# Altium schematic symbol library CCC.SchLib: 1 symbol
Pins are listed as number, name and electrical type; pins without a type are passive.

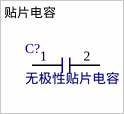
[diagram p0: symbol 贴片电容]

## 贴片电容
designator C?, comment 无极性贴片电容
footprint C 0603_M (无极性贴片电容)
pins: 1 0, 2 1